# Altium schematic symbol library JDY-10.SchLib: 1 symbol
Pins are listed as number, name and electrical type; pins without a type are passive.

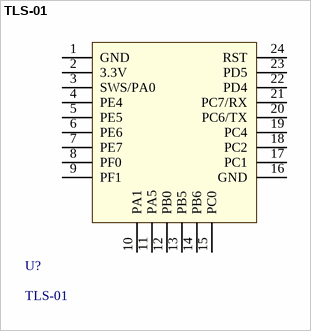
[diagram p0: symbol TLS-01]

## TLS-01
designator U?
footprint TLS-01
pins: 1 GND, 2 3.3V, 3 SWS/PA0, 4 PE4, 5 PE5, 6 PE6, 7 PE7, 8 PF0, 9 PF1, 10 PA1, 11 PA5, 12 PB0, 13 PB5, 14 PB6, 15 PC0, 16 GND, 17 PC1, 18 PC2, 19 PC4, 20 PC6/TX, 21 PC7/RX, 22 PD4, 23 PD5, 24 RST